# EAGLE library part MMDT5551-7-F (library diodes-inc-e14)
DUAL NPN SMALL SIGNAL SURFACE MOUNT TRANSISTOR
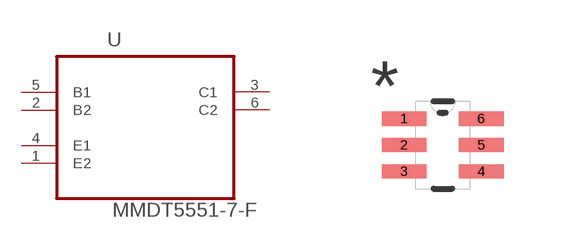
[diagram p46: symbol with the pads of SOT65P210X110-6N; footprint SOT65P210X110-6N]

Designator prefix U

## MMDT5551-7-F (MPN: MMDT5551-7-F; OC_FARNELL: 1773597; OC_NEWARK: 51R6838; PACKAGE: SOT-363-6; SUPPLIER: Diodes Inc)  [SOT65P210X110-6N]
1  E2  pas
2  B2  pas
3  C1  pas
4  E1  pas
5  B1  pas
6  C2  pas

## Footprint SOT65P210X110-6N (pad centres in mm)
smd 1.118 x 0.356: 1 -0.965,0.66; 2 -0.965,0; 3 -0.965,-0.66; 4 0.965,-0.66; 5 0.965,0; 6 0.965,0.66